# Altium footprint library Derek_2020_08_26.PcbLib: 40 footprints (part 3 of 3)
Each footprint in its own frame and in the unit in brackets; x right, y up, seen from the top. Pads: shape width x height; smd on the part's side, far side on the other; paste and mask are expansions set on the pad; w line width, h text height; cw(c..) or ccw(c..) is an arc to the next point about the centre after c.
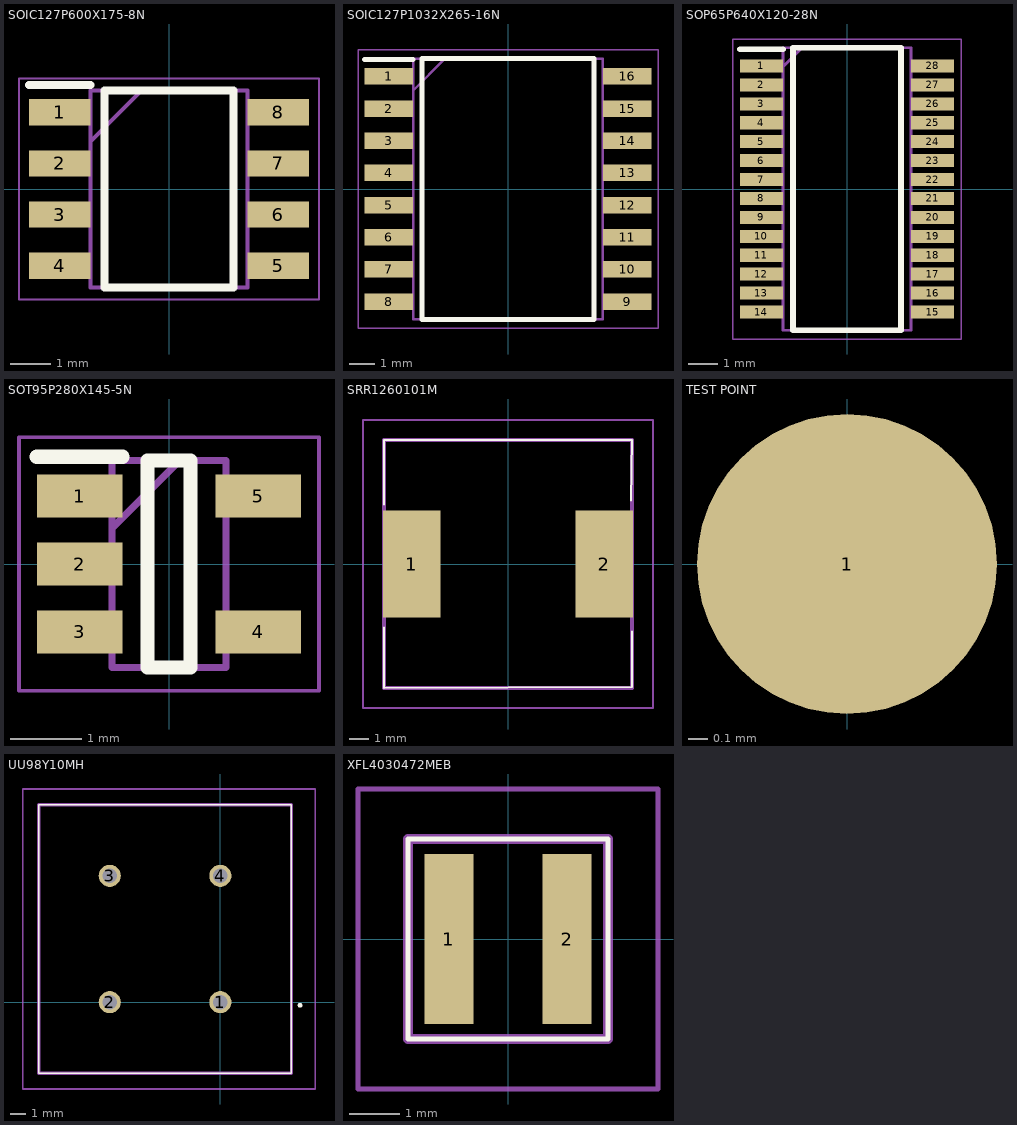
[diagram p2: the footprints below, top view; thin cyan lines are the x and y axes]

## SOIC127P600X175-8N [mm]
pads (8):
  rect 1.525x0.65 smd: 1(-2.712,1.905) 2(-2.712,0.635) 3(-2.712,-0.635) 4(-2.712,-1.905) 5(2.712,-1.905) 6(2.712,-0.635) 7(2.712,0.635) 8(2.712,1.905)
Top Overlay:
  lines w0.2: -3.475,2.58 -1.95,2.58 ; -1.6,-2.45 -1.6,2.45 1.6,2.45 1.6,-2.45 -1.6,-2.45
Mechanical 13:
  lines w0.1: -1.95,1.18 -0.68,2.45 ; -1.95,-2.45 -1.95,2.45 1.95,2.45 1.95,-2.45 -1.95,-2.45
Mechanical 15:
  lines w0.05: -3.725,-2.75 -3.725,2.75 3.725,2.75 3.725,-2.75 -3.725,-2.75
3D body "AD780ARZ.stp": height 1.75, standoff 0, extent -3,-2.45 3,2.45

## SOIC127P1032X265-16N [mm]
pads (16):
  rect 1.925x0.65 smd: 1(-4.712,4.445) 2(-4.712,3.175) 3(-4.712,1.905) 4(-4.712,0.635) 5(-4.712,-0.635) 6(-4.712,-1.905) 7(-4.712,-3.175) 8(-4.712,-4.445) 9(4.712,-4.445) 10(4.712,-3.175) 11(4.712,-1.905) 12(4.712,-0.635) 13(4.712,0.635) 14(4.712,1.905) 15(4.712,3.175) 16(4.712,4.445)
Top Overlay:
  lines w0.2: -5.675,5.12 -3.75,5.12 ; -3.4,-5.15 -3.4,5.15 3.4,5.15 3.4,-5.15 -3.4,-5.15
Mechanical 13:
  lines w0.1: -3.75,3.88 -2.48,5.15 ; -3.75,-5.15 -3.75,5.15 3.75,5.15 3.75,-5.15 -3.75,-5.15
Mechanical 15:
  lines w0.05: -5.925,-5.5 -5.925,5.5 5.925,5.5 5.925,-5.5 -5.925,-5.5
3D body "ADM2483BRWZ.stp": height 2.65, standoff 0, extent -5.162,-5.15 5.162,5.15

## SOP65P640X120-28N [mm]
pads (28):
  rect 1.475x0.45 smd: 1(-2.938,4.225) 2(-2.938,3.575) 3(-2.938,2.925) 4(-2.938,2.275) 5(-2.938,1.625) 6(-2.938,0.975) 7(-2.938,0.325) 8(-2.938,-0.325) 9(-2.938,-0.975) 10(-2.938,-1.625) 11(-2.938,-2.275) 12(-2.938,-2.925) 13(-2.938,-3.575) 14(-2.938,-4.225) 15(2.938,-4.225) 16(2.938,-3.575) 17(2.938,-2.925) 18(2.938,-2.275) 19(2.938,-1.625) 20(2.938,-0.975) 21(2.938,-0.325) 22(2.938,0.325) 23(2.938,0.975) 24(2.938,1.625) 25(2.938,2.275) 26(2.938,2.925) 27(2.938,3.575) 28(2.938,4.225)
Top Overlay:
  lines w0.2: -3.675,4.8 -2.2,4.8 ; -1.85,-4.85 -1.85,4.85 1.85,4.85 1.85,-4.85 -1.85,-4.85
Mechanical 13:
  lines w0.1: -2.2,4.2 -1.55,4.85 ; -2.2,-4.85 -2.2,4.85 2.2,4.85 2.2,-4.85 -2.2,-4.85
Mechanical 15:
  lines w0.05: -3.925,-5.15 -3.925,5.15 3.925,5.15 3.925,-5.15 -3.925,-5.15
3D body "AD7708BRUZ.stp": height 1.2, standoff 0, extent -3.2,-4.85 3.2,4.85

## SOT95P280X145-5N [mm]
pads (5):
  rect 1.2x0.6 smd: 1(-1.25,0.95) 2(-1.25,0) 3(-1.25,-0.95) 4(1.25,-0.95) 5(1.25,0.95)
Top Overlay:
  lines w0.2: -1.85,1.5 -0.65,1.5 ; -0.3,-1.45 -0.3,1.45 0.3,1.45 0.3,-1.45 -0.3,-1.45
Mechanical 13:
  lines w0.1: -0.8,0.5 0.15,1.45 ; -0.8,-1.45 -0.8,1.45 0.8,1.45 0.8,-1.45 -0.8,-1.45
Mechanical 15:
  lines w0.05: -2.1,-1.775 -2.1,1.775 2.1,1.775 2.1,-1.775 -2.1,-1.775
3D body "TLV1701AIDBVR.stp": height 1.45, standoff 0, extent -1.4,-1.45 1.4,1.45

## SRR1260101M [mm]
pads (2):
  rect 2.9x5.4 smd: 1(-4.85,0) 2(4.85,0)
Top Overlay:
  lines w0.1: -6.25,-3.2 -6.25,-6.25 6.25,-6.2 6.25,-3.4 ; -6.25,3 -6.25,6.25 6.25,6.25 6.2,3.2
Mechanical 13:
  lines w0.2: -6.25,-6.25 -6.25,6.25 6.25,6.25 6.25,-6.25 -6.25,-6.25
Mechanical 15:
  lines w0.1: -7.3,-7.25 -7.3,7.25 7.3,7.25 7.3,-7.25 -7.3,-7.25
3D body "SRR1260-101M.stp": height 6.6, standoff 0, extent -6.25,-6.25 6.25,6.25

## TEST POINT [mil]
pads (1):
  round 60 all layers, no hole: 1(0,0)
Top Paste:
  circle w50: c0,0 r20

## UU98Y10MH [mm]
pads (4):
  round 1.4 hole 0.9: 1(0,0) 2(-7,0) 3(-7,8) 4(0,8)
Top Overlay:
  lines w0.1: -11.5,-4.5 4.5,-4.5 4.5,12.5 -11.5,12.5 -11.5,-4.5
  lines w0.2: 5,-0.2 cw(c5.05,-0.2) 5.1,-0.2 ; 5,-0.2 ccw(c5.05,-0.2) 5.1,-0.2 ; 5,-0.2 cw(c5.05,-0.2) 5.1,-0.2
Mechanical 13:
  lines w0.2: -11.5,-4.5 -11.5,12.5 4.5,12.5 4.5,-4.5 -11.5,-4.5
Mechanical 15:
  lines w0.1: -12.5,-5.5 6,-5.5 6,13.5 -12.5,13.5 -12.5,-5.5
3D body "UU9.8Y-10MH.stp": height 14.1, standoff -5, extent -11.5,-4.5 4.5,12.5

## XFL4030472MEB [mm]
pads (2):
  rect 0.98x3.4 smd: 1(-1.185,0) 2(1.185,0)
Top Overlay:
  lines w0.1: -2,-2 -2,2 2,2 2,-2 -2,-2
Mechanical 13:
  lines w0.2: -2,-2 -2,2 2,2 2,-2 -2,-2
Mechanical 15:
  lines w0.1: -3,-3 -3,3 3,3 3,-3 -3,-3
3D body "XFL4020-222MEC.stp": height 3.1, standoff 0, extent -2,-2 2,2